# EAGLE library part TXB0104 (library NixieDisplay)
4 Channel Bi-Directional LLC
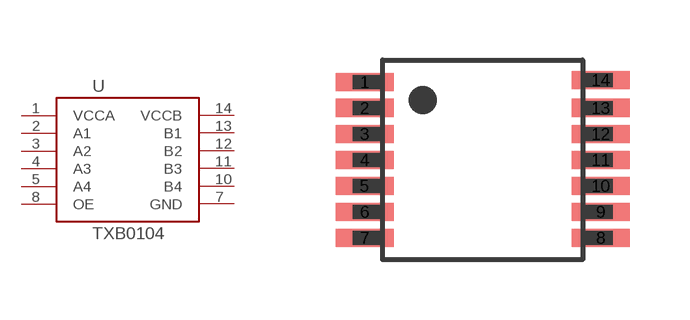
[diagram p11: symbol with the pads of TSSOP-14; footprint TSSOP-14]

Designator prefix U

## TXB0104  [TSSOP-14]
1  VCCA
2  A1
3  A2
4  A3
5  A4
7  GND
8  OE
10  B4
11  B3
12  B2
13  B1
14  VCCB

## Footprint TSSOP-14 (pad centres in mm)
smd 1.45 x 0.45: 1 -2.95,1.95; 2 -2.95,1.3; 3 -2.95,0.65; 4 -2.95,0; 5 -2.95,-0.65; 6 -2.95,-1.3; 7 -2.95,-1.95; 8 2.95,-1.95; 9 2.95,-1.3; 10 2.95,-0.65; 11 2.95,0; 12 2.95,0.65; 13 2.95,1.3; 14 2.95,2